# Altium footprint library Modules.PcbLib: 17 footprints (part 1 of 2)
Each footprint in its own frame and in the unit in brackets; x right, y up, seen from the top. Pads: shape width x height; smd on the part's side, far side on the other; paste and mask are expansions set on the pad; w line width, h text height; cw(c..) or ccw(c..) is an arc to the next point about the centre after c.
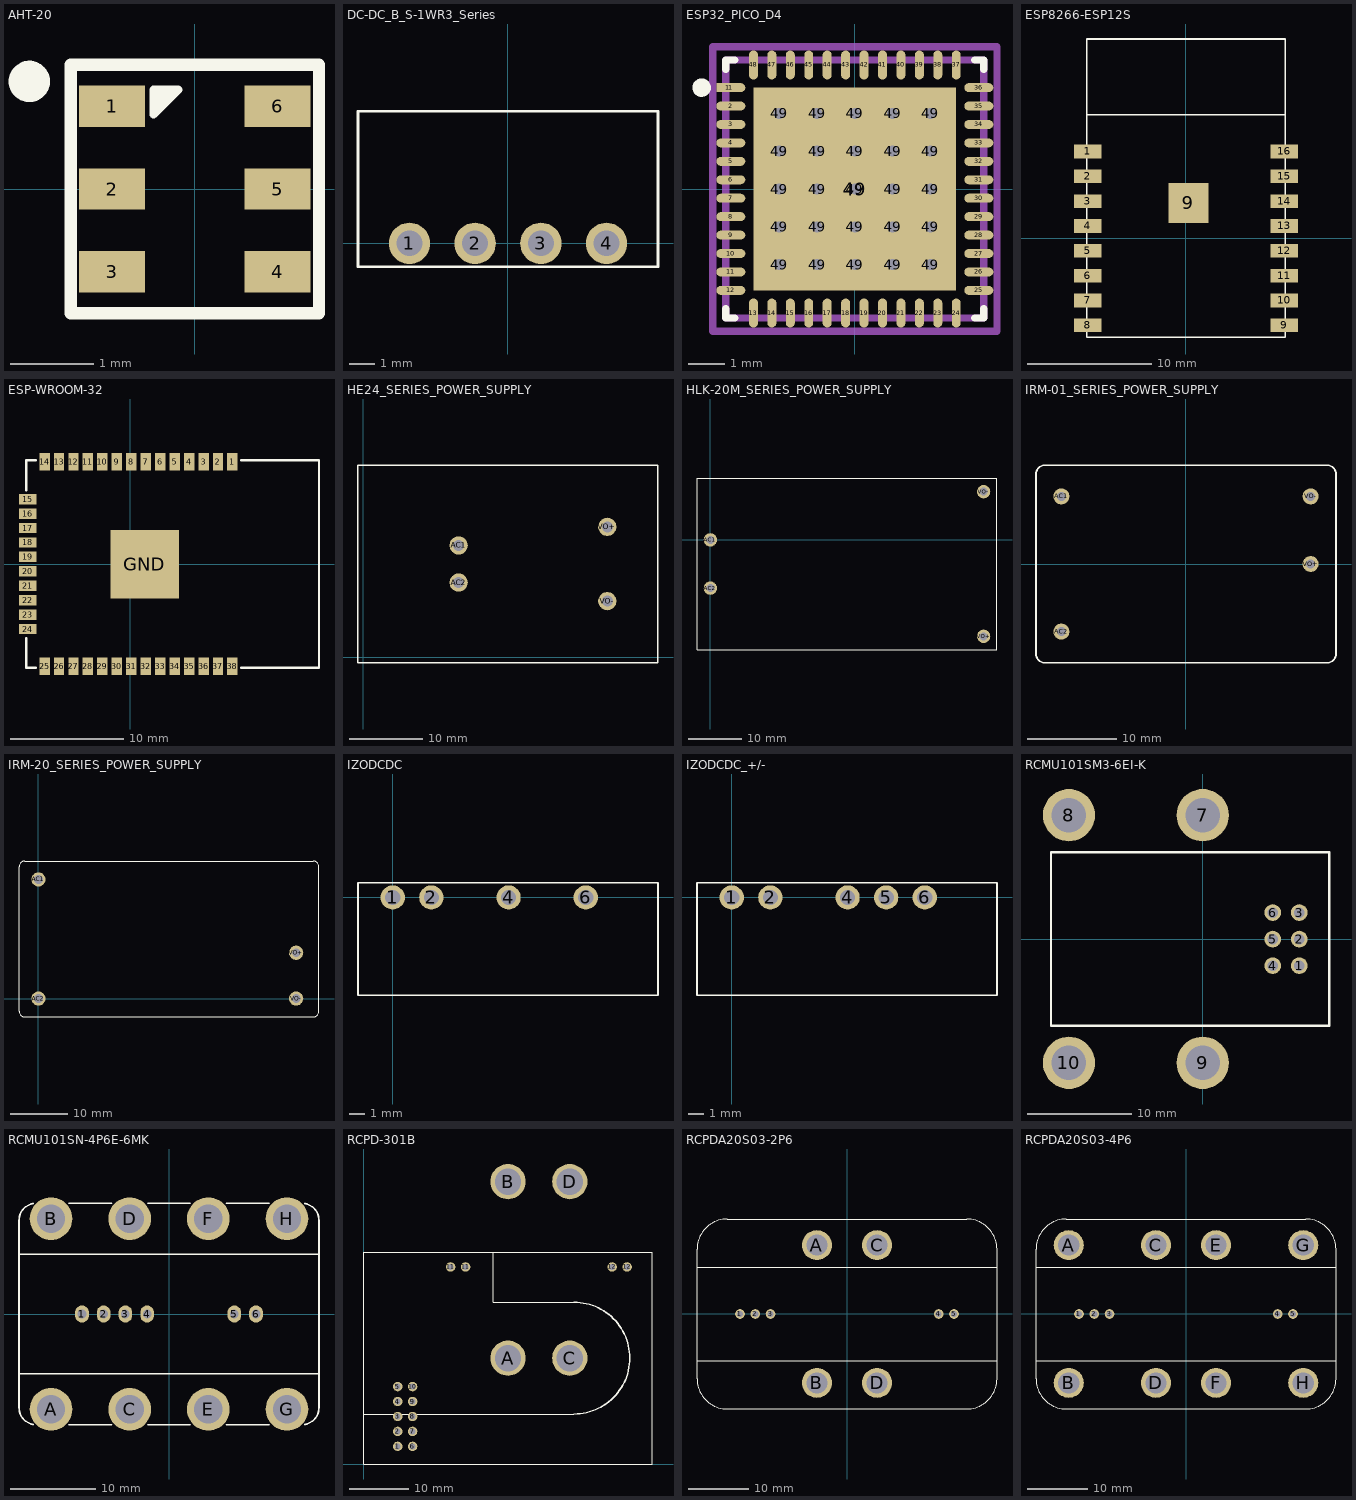
[diagram p0: the footprints below, top view; thin cyan lines are the x and y axes]

## AHT-20 [mm]
pads (6):
  rect 0.8x0.5 smd paste+0 mask+0: 1(-1,1) 2(-1,0) 3(-1,-1) 4(1,-1) 5(1,0) 6(1,1)
Top Overlay:
  circle w0.25: c-2,1.3 r0.125
  lines w0.1: -0.5,1 -0.3,1.2 ; -0.5,1.05 -0.35,1.2 ; -0.5,0.9 -0.5,1.2 -0.2,1.2 -0.5,0.9
  lines w0.15: -1.5,-1.5 -1.5,1.5 1.5,1.5 1.5,-1.5 -1.5,-1.5
3D body "AHT20 Sensor.step": height 1, standoff 0, extent -1.5,-1.5 1.5,1.5

## DC-DC_B_S-1WR3_Series [mm]
height 1.1
pads (4):
  round 1.6 hole 1: 1(-3.81,0) 2(-1.27,0) 3(1.27,0) 4(3.81,0)
Top Overlay:
  lines w0.1: -5.8,-0.9 -5.8,5.1 5.8,5.1 5.8,-0.9 -5.8,-0.9
3D body: height 10.16, standoff 0, extent -5.8,-0.9 5.8,5.1
3D body: height 0, standoff -3, extent -4.06,-0.15 -3.56,0.15
3D body: height 0, standoff -3, extent -1.52,-0.15 -1.02,0.15
3D body: height 0, standoff -3, extent 1.02,-0.15 1.52,0.15
3D body: height 0, standoff -3, extent 3.56,-0.15 4.06,0.15

## ESP32_PICO_D4 [mm]
pads (75):
  rect 0.613x0.242 smd paste+0 mask+0: 1(-3.45,2.75)
  rrect100% 0.785x0.242 smd paste+0 mask+0: 1(-3.363,2.75) 2(-3.363,2.25) 3(-3.363,1.75) 4(-3.363,1.25) 5(-3.363,0.75) 6(-3.363,0.25) 7(-3.363,-0.25) 8(-3.363,-0.75) 9(-3.363,-1.25) 10(-3.363,-1.75) 11(-3.363,-2.25) 12(-3.363,-2.75) 25(3.363,-2.75) 26(3.363,-2.25) 27(3.363,-1.75) 28(3.363,-1.25) 29(3.363,-0.75) 30(3.363,-0.25) 31(3.363,0.25) 32(3.363,0.75) 33(3.363,1.25) 34(3.363,1.75) 35(3.363,2.25) 36(3.363,2.75)
  rrect100% 0.242x0.785 smd paste+0 mask+0: 13(-2.75,-3.363) 14(-2.25,-3.363) 15(-1.75,-3.363) 16(-1.25,-3.363) 17(-0.75,-3.363) 18(-0.25,-3.363) 19(0.25,-3.363) 20(0.75,-3.363) 21(1.25,-3.363) 22(1.75,-3.363) 23(2.25,-3.363) 24(2.75,-3.363) 37(2.75,3.363) 38(2.25,3.363) 39(1.75,3.363) 40(1.25,3.363) 41(0.75,3.363) 42(0.25,3.363) 43(-0.25,3.363) 44(-0.75,3.363) 45(-1.25,3.363) 46(-1.75,3.363) 47(-2.25,3.363) 48(-2.75,3.363)
  round 0.6 hole 0.3: 49(-2.05,0) 49(-2.05,1.025) 49(-2.05,2.05) 49(-2.05,-2.05) 49(-2.05,-1.025) 49(-1.025,-2.05) 49(-1.025,-1.025) 49(-1.025,0) 49(-1.025,1.025) 49(-1.025,2.05) 49(0,-2.05) 49(0,-1.025) 49(0,0) 49(0,1.025) 49(0,2.05) 49(1.025,-2.05) 49(1.025,-1.025) 49(1.025,0) 49(1.025,1.025) 49(1.025,2.05) 49(2.05,0) 49(2.05,-2.05) 49(2.05,-1.025) 49(2.05,1.025) 49(2.05,2.05)
  rect 5.5x5.5 smd paste-1000 mask+0: 49(0,0)
Top Overlay:
  circle w0.25: c-4.156,2.75 r0.125
  lines w0.2: -3.5,-3.25 -3.5,-3.5 -3.25,-3.5 ; -3.5,3.25 -3.5,3.5 -3.25,3.5 ; 3.25,-3.5 3.5,-3.5 3.5,-3.25 ; 3.25,3.5 3.5,3.5 3.5,3.25
Top Paste:
  rectangle: -2.076,0.337 -0.337,2.076
  rectangle: 0.337,0.337 2.076,2.076
  rectangle: -2.076,-2.076 -0.337,-0.337
  rectangle: 0.337,-2.076 2.076,-0.337
Mechanical 10:
  lines w0.2: -3.856,-3.856 3.856,-3.856 3.856,3.856 -3.856,3.856 -3.856,-3.856
  text ".Designator" at -2.375,-4.65 h1
Mechanical 12:
  lines w0.2: -3.5,-3.5 3.5,-3.5 3.5,3.5 -3.5,3.5 -3.5,-3.5
Mechanical 15:
  lines w0.1: -0.5,0 0.5,0 ; 0,-0.5 0,0.5
  lines w0.2: -3.856,-3.856 3.856,-3.856 3.856,3.856 -3.856,3.856 -3.856,-3.856
3D body "IC_Espressif_Systems_ESP32-PICO-D4_eec.STEP": height 0.25, standoff 0, extent -3.856,-3.856 3.856,3.856

## ESP8266-ESP12S [mm]
pads (17):
  rect 2.2x1.1 smd: 1(-7.9,7) 2(-7.9,5) 3(-7.9,3) 4(-7.9,1) 5(-7.9,-1) 6(-7.9,-3) 7(-7.9,-5) 8(-7.9,-7) 9(7.9,-7) 10(7.9,-5) 11(7.9,-3) 12(7.9,-1) 13(7.9,1) 14(7.9,3) 15(7.9,5) 16(7.9,7)
  rect 3.2x3.2 smd: 9(0.2,2.85)
Top Overlay:
  lines w0.127: -8,9.95 8,9.95 ; -8,-7.95 8,-7.95 8,16.05 -8,16.05 -8,-7.95
3D body: height 1.6, standoff 0.8, extent 4.5,8.45 7.5,9.65
3D body: height 0.8, standoff 0, extent -8,-7.95 8,16.05
3D body: height 3, standoff 0.8, extent -7,-7.45 7,8.05

## ESP-WROOM-32 [mil] "ESP-WROOM-32"
pads (39):
  rect 36x60 smd: 1(354.76,354.67) 2(304.76,354.67) 3(254.76,354.67) 4(204.76,354.67) 5(154.76,354.67) 6(104.76,354.67) 7(54.76,354.67) 8(3.91,354.67) 9(-46.09,354.67) 10(-96.09,354.67) 11(-146.09,354.67) 12(-196.09,354.67) 13(-246.09,354.67) 14(-296.09,354.67) 25(-296.09,-354.67) 26(-246.09,-354.67) 27(-196.09,-354.67) 28(-146.09,-354.67) 29(-96.09,-354.67) 30(-46.09,-354.67) 31(3.91,-354.67) 32(54.76,-354.67) 33(104.76,-354.67) 34(154.76,-354.67) 35(204.76,-354.67) 36(254.76,-354.67) 37(304.76,-354.67) 38(354.76,-354.67)
  rect 60x36 smd: 15(-354.76,224.67) 16(-354.76,174.67) 17(-354.76,124.67) 18(-354.76,74.67) 19(-354.76,24.67) 20(-354.76,-25.33) 21(-354.76,-75.33) 22(-354.76,-125.33) 23(-354.76,-175.33) 24(-354.76,-225.33)
  rect 237x237 smd: GND(50.76,-0.33)
Top Overlay:
  lines w8: -359.76,-256.24 -359.76,-359.67 -327.2,-359.67 ; -359.76,255.57 -359.76,359.67 -327.2,359.67 ; 385.4,-359.67 654.76,-359.67 654.76,359.67 385.4,359.67
3D body "ESP-WROOM-32.STEP": height 114.37, standoff -0.28, extent -353.77,-353.69 650.16,354.97

## HE24_SERIES_POWER_SUPPLY [mm] "HIECUBE Power Supply"
height 22.5
pads (4):
  round 2.5 hole 1.5: AC1(13,15.29) AC2(13,10.21) VO+(33.32,17.83) VO-(33.32,7.67)
Top Overlay:
  lines w0.2: -0.75,-0.75 -0.75,26.25 40.25,26.25 40.25,-0.75 -0.75,-0.75
3D body: height 0, standoff -4.6, extent 32.82,17.33 33.82,18.33
3D body: height 0, standoff -4.6, extent 32.82,7.17 33.82,8.17
3D body: height 0, standoff -4.6, extent 12.5,9.71 13.5,10.71
3D body: height 0, standoff -4.6, extent 12.5,14.79 13.5,15.79
3D body: height 22, standoff 0, extent 0,0 39.5,25.5

## HLK-20M_SERIES_POWER_SUPPLY [mm] "HI-LINK Power Supply"
height 22.5
pads (4):
  round 2.5 hole 1.5: AC1(0,0) AC2(0,-9) VO+(51,-18) VO-(51,9)
Top Overlay:
  lines w0.2: -2.5,-20.5 -2.5,11.5 53.5,11.5 53.5,-20.5 -2.5,-20.5
3D body: height 0, standoff -5, extent 50.5,-18.5 51.5,-17.5
3D body: height 0, standoff -5, extent 50.5,8.5 51.5,9.5
3D body: height 0, standoff -5, extent -0.5,-9.5 0.5,-8.5
3D body: height 0, standoff -5, extent -0.5,-0.5 0.5,0.5
3D body: height 22.5, standoff 0, extent -2.5,-20.5 53.5,11.5

## IRM-01_SERIES_POWER_SUPPLY [mm] "AC\DC Converter IRM-01 series MeanWell"
height 15
pads (4):
  round 1.8 hole 1: AC1(-14,7.6) AC2(-14,-7.6) VO+(14,0) VO-(14,7.6)
Top Overlay:
  lines w0.2: -16.85,-10.1 ccw(c-15.85,-10.1) -15.85,-11.1 15.85,-11.1 ccw(c15.85,-10.1) 16.85,-10.1 16.85,10.1 ccw(c15.85,10.1) 15.85,11.1 -15.85,11.1 ccw(c-15.85,10.1) -16.85,10.1 -16.85,-10.1 ; -14,-7.6 -14,-7.6 ; -14,11.1 -14,11.1
3D body "IRM-01.STEP": height 15.2, standoff -5.8, extent -16.85,-11.1 16.85,11.1

## IRM-20_SERIES_POWER_SUPPLY [mm] "IRM-20 Power Supply"
height 8.636
pads (4):
  round 2.5 hole 1.5: AC1(0,20.8) AC2(0,0) VO+(45,8) VO-(45,0)
Top Overlay:
  lines w0.2: 47.968,24 -2.4,24 ccw(c-2.4,23) -3.4,23 -3.4,-2.2 ccw(c-2.4,-2.2) -2.4,-3.2 48,-3.2 ccw(c48,-2.2) 49,-2.2 49,22.968 ; 48,24 cw(c48,23) 49,23
3D body "IRM-20-24.stp": height 24, standoff -3.5, extent -3.4,-3.2 49,24

## IZODCDC [mm]
height 1.1
pads (4):
  round 1.6 hole 1: 1(0,0) 2(2.54,0) 4(7.62,0) 6(12.7,0)
Top Overlay:
  lines w0.1: -2.286,-6.426 17.45,-6.426 17.45,0.965 -2.286,0.965 -2.286,-6.426
3D body "DCDC.stp": height 10.76, standoff -3.5, extent -2.243,-6.2 17.407,0.85

## IZODCDC_+/- [mm] "IZODCDC +/-"
height 1.1
pads (5):
  round 1.6 hole 1: 1(0,0) 2(2.54,0) 4(7.62,0) 5(10.16,0) 6(12.7,0)
Top Overlay:
  lines w0.1: -2.286,-6.426 -2.286,0.965 17.45,0.965 17.45,-6.426 -2.286,-6.426
3D body "DCDC.stp": height 10.76, standoff -3.5, extent -2.243,-6.2 17.407,0.85

## RCMU101SM3-6EI-K [mm] "Residual Current Monitoring Unit, 1-Phase"
height 23.1
pads (10):
  round 1.6 hole 1: 1(9.24,-2.55) 2(9.24,-0.01) 3(9.24,2.53) 4(6.7,-2.55) 5(6.7,-0.01) 6(6.7,2.53)
  round 5 hole 3.3: 7(0,11.85) 8(-12.8,11.85) 9(0,-11.85) 10(-12.8,-11.85)
Top Overlay:
  lines w0.2: -14.5,-8.3 12.1,-8.3 12.1,8.3 -14.5,8.3 -14.5,-8.3
3D body: height 23.1, standoff 0, extent -14.5,-8.3 12.1,8.3
3D body: height 14, standoff 0, extent -14.5,8.3 1.7,14.15
3D body: height 0, standoff -3, extent 6.401,2.23 6.999,2.829
3D body: height 0, standoff -3, extent 8.941,2.23 9.539,2.829
3D body: height 0, standoff -3, extent 6.401,-0.31 6.999,0.289
3D body: height 0, standoff -3, extent 8.941,-0.31 9.539,0.289
3D body: height 0, standoff -3, extent 8.941,-2.85 9.539,-2.251
3D body: height 0, standoff -3, extent 6.401,-2.85 6.999,-2.251
3D body: height 14, standoff 0, extent -14.5,-14.15 1.7,-8.3
3D body: height 0, standoff -3, extent -14.194,10.45 -11.406,13.244
3D body: height 0, standoff -3, extent -1.394,10.45 1.395,13.244
3D body: height 0, standoff -3, extent -14.194,-13.25 -11.406,-10.456
3D body: height 0, standoff -3, extent -1.394,-13.25 1.395,-10.456

## RCMU101SN-4P6E-6MK [mm] "AC\DC Converter IRM-01 series MeanWell"
height 32.5
pads (14):
  oval 1.6x2 hole 1: 1(-10.18,0) 2(-7.64,0) 3(-5.1,0) 4(-2.56,0) 5(7.64,0) 6(10.18,0)
  round 5 hole 3.3: A(-13.8,-11.15) B(-13.8,11.15) C(-4.6,-11.15) D(-4.6,11.15) E(4.6,-11.15) F(4.6,11.15) G(13.8,-11.15) H(13.8,11.15)
Top Overlay:
  lines w0.2: -17.55,-7 17.55,-7 ; -17.55,7 17.55,7 ; -15.903,-12.919 cw(c-15.55,-10.95) -17.55,-10.95 -17.55,10.95 cw(c-15.55,10.95) -15.903,12.919 ; -11.7,-12.95 -6.7,-12.95 ; -11.7,12.95 -6.7,12.95 ; -2.5,-12.95 2.5,-12.95 ; -2.5,12.95 2.5,12.95 ; 6.7,-12.95 11.7,-12.95 ; 6.7,12.95 11.7,12.95 ; 15.903,-12.919 ccw(c15.55,-10.95) 17.55,-10.95 17.55,10.95 ccw(c15.55,10.95) 15.903,12.919
3D body: height 24, standoff 0, extent -15.2,7 15.189,12.95
3D body: height 24, standoff 0, extent -15.189,-12.95 15.2,-7
3D body: height 3, standoff 0, extent -17.55,-12.95 17.55,12.95
3D body: height 0, standoff -3, extent -15.189,-12.547 -12.4,-9.753
3D body: height 0, standoff -3, extent -5.989,-12.547 -3.2,-9.753
3D body: height 0, standoff -3, extent 3.206,-12.547 5.994,-9.753
3D body: height 0, standoff -3, extent 12.411,-12.547 15.2,-9.753
3D body: height 0, standoff -3, extent 12.411,9.753 15.2,12.547
3D body: height 0, standoff -3, extent 3.206,9.753 5.994,12.547
3D body: height 0, standoff -3, extent -5.994,9.753 -3.206,12.547
3D body: height 0, standoff -3, extent -15.189,9.753 -12.4,12.547
3D body: height 0, standoff -3, extent 9.883,-0.299 10.48,0.3
3D body: height 0, standoff -3, extent 7.343,-0.299 7.94,0.3
3D body: height 0, standoff -3, extent -10.477,-0.299 -9.88,0.3
3D body: height 0, standoff -3, extent -7.939,-0.299 -7.341,0.299
3D body: height 0, standoff -3, extent -5.397,-0.299 -4.8,0.3
3D body: height 0, standoff -3, extent -2.859,-0.299 -2.261,0.299
3D body: height 32.3, standoff 0, extent -17.55,-7 17.55,7

## RCPD-301B [mm] "Integrated transformer, extremely low temperature drift, small size, high reliability"
height 23.1
pads (18):
  round 1.6 hole 1: 1(5.75,3) 2(5.75,5.54) 3(5.75,8.08) 4(5.75,10.62) 5(5.75,13.16) 6(8.29,3) 7(8.29,5.54) 8(8.29,8.08) 9(8.29,10.62) 10(8.29,13.16) 11(14.75,33.5) 11(17.29,33.5) 12(42.21,33.5) 12(44.75,33.5)
  round 6 hole 4.5: A(24.5,18) B(24.5,48) C(35,18) D(35,48)
Top Overlay:
  lines w0.2: 0,8.5 35.7,8.5 ; 22,36 22,27.5 35.7,27.5 ; 0,0 0,36 49,36 49,0 0,0
  lines w0.254: 35.7,8.5 ccw(c35.7,18) 35.7,27.5
3D body: height 0, standoff -3, extent 7.991,7.779 8.591,8.379
3D body: height 0, standoff -3, extent 5.451,7.779 6.051,8.379
3D body: height 0, standoff -3, extent 7.991,5.239 8.591,5.839
3D body: height 0, standoff -3, extent 5.451,5.239 6.051,5.839
3D body: height 0, standoff -3, extent 5.451,2.699 6.051,3.299
3D body: height 0, standoff -3, extent 7.991,2.699 8.591,3.299
3D body: height 0, standoff -3, extent 7.991,12.859 8.591,13.459
3D body: height 0, standoff -3, extent 5.451,12.859 6.051,13.459
3D body: height 0, standoff -3, extent 7.991,10.319 8.591,10.919
3D body: height 0, standoff -3, extent 5.451,10.319 6.051,10.919
3D body: height 0, standoff -3, extent 22.494,15.997 26.494,19.997
3D body: height 0, standoff -3, extent 32.994,15.997 36.994,19.997
3D body: height 0, standoff -3, extent 16.991,33.199 17.591,33.799
3D body: height 0, standoff -3, extent 14.451,33.199 15.051,33.799
3D body: height 0, standoff -3, extent 41.909,33.201 42.509,33.801
3D body: height 0, standoff -3, extent 44.449,33.201 45.049,33.801
3D body: height 16.8, standoff 0, extent 0,0 49,36
3D body: height 24.8, standoff 0, extent 0,8.5 35,36
3D body: height 24.8, standoff 0, extent 26.2,8.5 45.2,27.5

## RCPDA20S03-2P6 [mm] "Residual Current Monitoring Unit, 1-Phase"
height 38.8
pads (9):
  round 1.6 hole 1: 1(-17.8,0) 2(-15.26,0) 3(-12.72,0) 4(15.26,0) 5(17.8,0)
  round 5 hole 3.5: A(-5,11.45) B(-5,-11.45) C(5,11.45) D(5,-11.45)
Top Overlay:
  lines w0.2: -24.95,-7.75 24.95,-7.75 ; -24.95,7.75 24.95,7.75 ; -24.95,-10.8 ccw(c-19.95,-10.8) -19.95,-15.8 19.95,-15.8 ccw(c19.95,-10.8) 24.95,-10.8 24.95,10.8 ccw(c19.95,10.8) 19.95,15.8 -19.95,15.8 ccw(c-19.95,10.8) -24.95,10.8 -24.95,-10.8
3D body: height 18, standoff 0, extent -6.6,7.75 6.57,13
3D body: height 38.8, standoff 0, extent -24.95,-7.75 24.95,7.75
3D body: height 11.8, standoff 0, extent -24.95,-15.8 24.95,15.8
3D body: height 18, standoff 0, extent -6.57,-13 6.6,-7.75
3D body: height 0, standoff -3, extent -6.394,10.05 -3.605,12.844
3D body: height 0, standoff -3, extent 3.605,10.05 6.394,12.844
3D body: height 0, standoff -3, extent 3.605,-12.85 6.394,-10.056
3D body: height 0, standoff -3, extent -6.394,-12.85 -3.605,-10.056
3D body: height 0, standoff -3, extent -18.099,-0.3 -17.501,0.299
3D body: height 0, standoff -3, extent -15.559,-0.3 -14.961,0.299
3D body: height 0, standoff -3, extent -13.019,-0.3 -12.421,0.299
3D body: height 0, standoff -3, extent 14.961,-0.3 15.559,0.299
3D body: height 0, standoff -3, extent 17.501,-0.3 18.099,0.299

## RCPDA20S03-4P6 [mm] "Residual Current Monitoring Unit, 3-Phase"
height 38.8
pads (13):
  round 1.6 hole 1: 1(-17.8,0) 2(-15.26,0) 3(-12.72,0) 4(15.26,0) 5(17.8,0)
  round 5 hole 3.5: A(-19.5,11.45) B(-19.5,-11.45) C(-5,11.45) D(-5,-11.45) E(5,11.45) F(5,-11.45) G(19.5,11.45) H(19.5,-11.45)
Top Overlay:
  lines w0.2: -24.95,-7.75 24.95,-7.75 ; -24.95,7.75 24.95,7.75 ; -24.95,-10.8 ccw(c-19.95,-10.8) -19.95,-15.8 19.95,-15.8 ccw(c19.95,-10.8) 24.95,-10.8 24.95,10.8 ccw(c19.95,10.8) 19.95,15.8 -19.95,15.8 ccw(c-19.95,10.8) -24.95,10.8 -24.95,-10.8
3D body: height 0, standoff -3, extent 17.501,-0.3 18.099,0.299
3D body: height 0, standoff -3, extent 14.961,-0.3 15.559,0.299
3D body: height 0, standoff -3, extent -13.019,-0.3 -12.421,0.299
3D body: height 0, standoff -3, extent -15.559,-0.3 -14.961,0.299
3D body: height 0, standoff -3, extent -18.099,-0.3 -17.501,0.299
3D body: height 0, standoff -3, extent -20.894,-12.85 -18.106,-10.056
3D body: height 0, standoff -3, extent -6.394,-12.85 -3.605,-10.056
3D body: height 0, standoff -3, extent 3.605,-12.85 6.394,-10.056
3D body: height 0, standoff -3, extent 18.106,-12.85 20.894,-10.056
3D body: height 0, standoff -3, extent 18.106,10.05 20.894,12.844
3D body: height 0, standoff -3, extent 3.605,10.05 6.394,12.844
3D body: height 0, standoff -3, extent -6.394,10.05 -3.605,12.844
3D body: height 0, standoff -3, extent -20.894,10.05 -18.106,12.844
3D body: height 25, standoff 0, extent -21,-13 21,-7.75
3D body: height 25, standoff 0, extent -21,7.75 21,13
3D body: height 11.8, standoff 0, extent -24.95,-15.8 24.95,15.8
3D body: height 38.8, standoff 0, extent -24.95,-7.75 24.95,7.75